# EAGLE library part LT1018 (library QuantumOptics)
Compatator, dual, Linear Tech, medium fast (4.5nS), single supply to 40V, open drain with weak pullup.
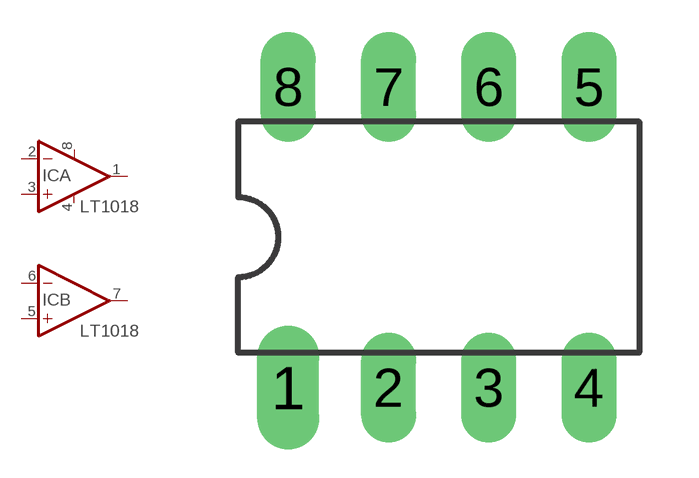
[diagram p23: symbol with the pads of DIL08; footprint DIL08]

Designator prefix IC; gates A=OPAMP B=OPAMP G$1=PWR+-

## LT1018N8  [DIL08]
1  A:OUT  out
2  A:-IN  in
3  A:+IN  in
4  G$1:V-
5  B:+IN  in
6  B:-IN  in
7  B:OUT  out
8  G$1:V+

## Footprint DIL08 (pad centres in mm)
Dual In Line Package
drill 0.889 pad 1.575 long: 1 -3.81,-3.81
drill 0.889 long: 2 -1.27,-3.81; 3 1.27,-3.81; 4 3.81,-3.81; 5 3.81,3.81; 6 1.27,3.81; 7 -1.27,3.81; 8 -3.81,3.81